# Altium schematic symbol library 1.电阻、电容、电感原理库.SchLib: 32 symbols
Pins are listed as number, name and electrical type; pins without a type are passive.

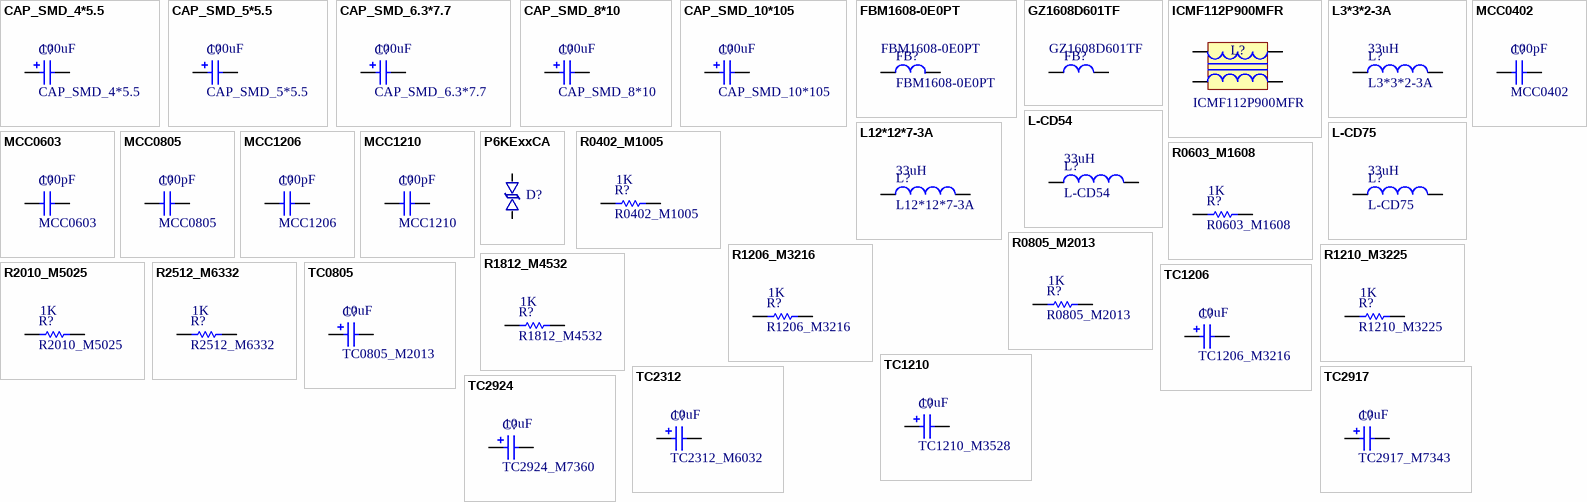
[diagram p0: symbols CAP_SMD_4*5.5 to TC2924]

## CAP_SMD_4*5.5
designator C?  value 100uF
SMD Capacitor 4*5.5
footprint CAP_SMD_4*5.5
pins: 1, 2

## CAP_SMD_5*5.5
designator C?  value 100uF
SMD Capacitor 5*5.5
footprint CAP_SMD_5*5.5
pins: 1, 2

## CAP_SMD_6.3*7.7
designator C?  value 100uF
SMD Capacitor 6.3*7.7
footprint CAP_SMD_6.3*7.7
pins: 1, 2

## CAP_SMD_8*10
designator C?  value 100uF
SMD Capacitor 8*10
footprint CAP_SMD_8*10
pins: 1, 2

## CAP_SMD_10*105
designator C?  value 100uF
SMD Capacitor 10*105
footprint CAP_SMD_10*105
pins: 1, 2

## FBM1608-0E0PT
designator FB?
磁珠Ferrite Bead; Value: FBM1608-0E0PT
footprint R0603_M1608
pins: 1, 2

## GZ1608D601TF
designator FB?
磁珠Ferrite Bead 600R 100M; Value: GZ1608D601TF
footprint R0603_M1608
pins: 1, 2

## ICMF112P900MFR
designator L?
COMMON MODE FILTER; Value: ICMF112P900MFR
pins: 1, 2, 3, 4

## L3*3*2-3A
designator L?  value 33uH
Inductor
footprint L3*3*2-3A
pins: 1, 2

## L12*12*7-3A
designator L?  value 33uH
Inductor
footprint L12*12*7-3A
pins: 1, 2

## L-CD54
designator L?  value 33uH
Inductor CD54 Type
footprint CD-54T
pins: 1, 2

## L-CD75
designator L?  value 33uH
Inductor CD75 Type
footprint CD-75T
pins: 1, 2

## MCC0402
designator C?  value 100pF
Multilayer Ceramic Capacitor 0402
footprint C0402_M1005
pins: 1, 2

## MCC0603
designator C?  value 100pF
Multilayer Ceramic Capacitor 0603
footprint C0603_M1608 (Chip Capacitor, 2-Leads, Body 1.6x0.8mm, IPC Medium Density)
pins: 1, 2

## MCC0805
designator C?  value 100pF
Multilayer Ceramic Capacitor 0805
footprint C0805_M2013 (Chip Capacitor, 2-Leads, Body 2.0x1.3mm, IPC Medium Density)
pins: 1, 2

## MCC1206
designator C?  value 100pF
Multilayer Ceramic Capacitor 1206
footprint C1206_M3216
pins: 1, 2

## MCC1210
designator C?  value 100pF
Multilayer Ceramic Capacitor 1210
footprint C1210_M3225
pins: 1, 2

## P6KExxCA
designator D?  (value not drawn)
Value: P6KE6.8CA
footprint SMA (Footprint not found)
pins: 1, 2

## R0402_M1005
designator R?  value 1K
Resistor
footprint R0402_M1005
pins: 1, 2

## R0603_M1608
designator R?  value 1K
Resistor
footprint R0603_M1608 (Chip Capacitor, 2-Leads, Body 1.6x0.8mm, IPC Medium Density)
pins: 1, 2

## R0805_M2013
designator R?  value 1K
Resistor
footprint R0805_M2013
pins: 1, 2

## R1206_M3216
designator R?  value 1K
Resistor
footprint R1206_M3216
pins: 1, 2

## R1210_M3225
designator R?  value 1K
Resistor
footprint R1210_M3225
pins: 1, 2

## R1812_M4532
designator R?  value 1K
Resistor
footprint R1812_M4532
pins: 1, 2

## R2010_M5025
designator R?  value 1K
Resistor
footprint R2010_M5025
pins: 1, 2

## R2512_M6332
designator R?  value 1K
Resistor
footprint R2512_M6332
pins: 1, 2

## TC0805
designator C?, comment TC0805_M2013  value 10uF
Tantalum Capacitor 0805
footprint TC0805_M2013
pins: 1, 2

## TC1206
designator C?, comment TC1206_M3216  value 10uF
Tantalum Capacitor 1206
footprint TC1206_M3216
pins: 1, 2

## TC1210
designator C?, comment TC1210_M3528  value 10uF
Tantalum Capacitor 1210
footprint TC1210_M3528
pins: 1, 2

## TC2312
designator C?, comment TC2312_M6032  value 10uF
Tantalum Capacitor 2312
footprint TC2312_M6032
pins: 1, 2

## TC2917
designator C?, comment TC2917_M7343  value 10uF
Tantalum Capacitor 2917
footprint TC2917_M7343
pins: 1, 2

## TC2924
designator C?, comment TC2924_M7360  value 10uF
Tantalum Capacitor 2924
footprint TC2924_M7360
pins: 1, 2